# EAGLE library part MOLEX_SL_29 (library molex-sl-connectors_jw)
Molex SL-Series PCB Header, 29-Pos, 0.1" (2.54mm) Centers
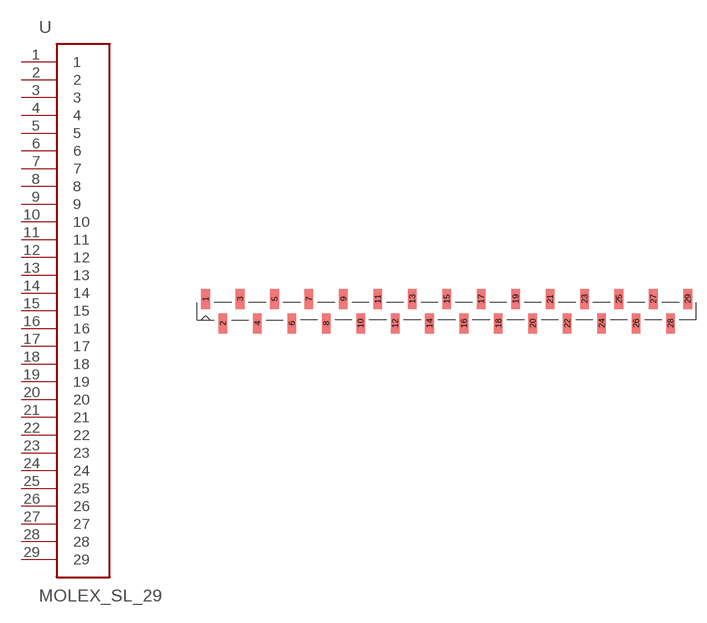
[diagram p23: symbol with the pads of SL_87898_29; footprint SL_87898_29]

Designator prefix -

## MOLEX_SL_29-87898  [SL_87898_29]
1  1
2  2
3  3
4  4
5  5
6  6
7  7
8  8
9  9
10  10
11  11
12  12
13  13
14  14
15  15
16  16
17  17
18  18
19  19
20  20
21  21
22  22
23  23
24  24
25  25
26  26
27  27
28  28
29  29

## Footprint SL_87898_29 (pad centres in mm)
SMD Vertical Header (no latch or pegs) Package also includes Pick-N-Place Cap Tube packaging w/o Pick-N-Place Cap: 87898-2921 87898-2922 87898-2924 87898-2925 87898-2926 Tube packaging w/ Pick-N-Place Cap: 87898-2931 87898-2932 87898-2934 87898-2935 87898-2936
smd 1.27 x 2.946: 1 -35.56,1.803; 2 -33.02,-1.803; 3 -30.48,1.803; 4 -27.94,-1.803; 5 -25.4,1.803; 6 -22.86,-1.803; 7 -20.32,1.803; 8 -17.78,-1.803; 9 -15.24,1.803; 10 -12.7,-1.803; 11 -10.16,1.803; 12 -7.62,-1.803; 13 -5.08,1.803; 14 -2.54,-1.803; 15 0,1.803; 16 2.54,-1.803; 17 5.08,1.803; 18 7.62,-1.803; 19 10.16,1.803; 20 12.7,-1.803; 21 15.24,1.803; 22 17.78,-1.803; 23 20.32,1.803; 24 22.86,-1.803; 25 25.4,1.803; 26 27.94,-1.803; 27 30.48,1.803; 28 33.02,-1.803; 29 35.56,1.803